# EAGLE library part 24LC512 (library Components Library)
IC EEPROM 512KBIT 400KHZ 8SOIC
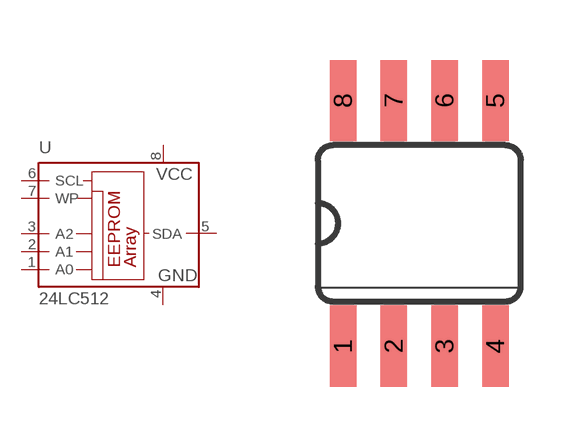
[diagram p12: symbol with the pads of SO08; footprint SO08]

Designator prefix U

## 24LC512I/SN  [SO08]
1  A0  in
2  A1  in
3  A2  in
4  GND  pwr
5  SDA
6  SCL  in
7  WP  in
8  VCC  pwr

## Footprint SO08 (pad centres in mm)
smd 0.66 x 2.032: 1 -1.905,-3.073; 2 -0.635,-3.073; 3 0.635,-3.073; 4 1.905,-3.073; 5 1.905,3.073; 6 0.635,3.073; 7 -0.635,3.073; 8 -1.905,3.073